# Altium footprint library 634-10ABP.PcbLib: 1 footprints
Each footprint in its own frame and in the unit in brackets; x right, y up, seen from the top. Pads: shape width x height; smd on the part's side, far side on the other; paste and mask are expansions set on the pad; w line width, h text height; cw(c..) or ccw(c..) is an arc to the next point about the centre after c.
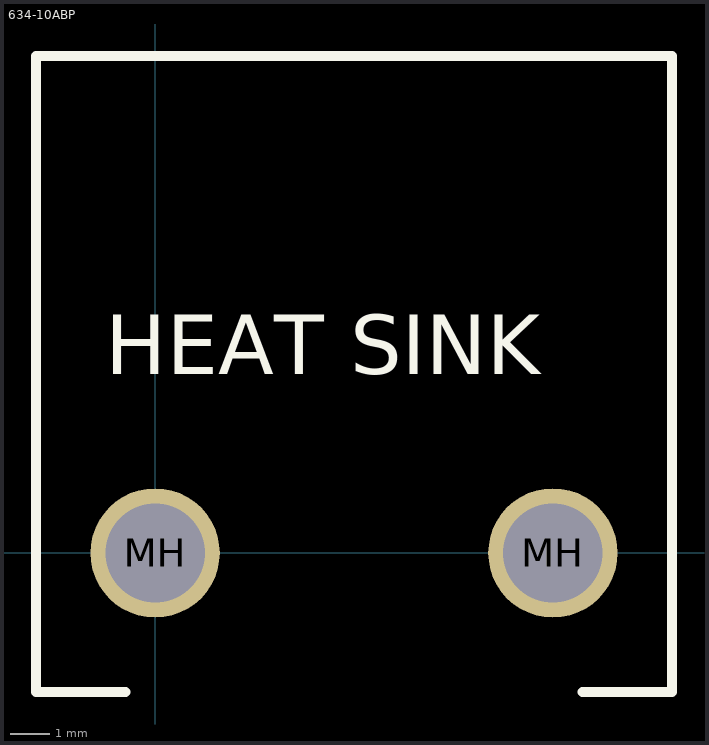
[diagram p0: the footprint, top view; thin cyan lines are the x and y axes]

## 634-10ABP [mil]
pads (2):
  round 130 hole 100: MH(0,0) MH(400,0)
Top Overlay:
  lines w10: -30,-140 -120,-140 -120,500 520,500 520,-140 430,-140
  text "HEAT SINK" at -50,180 h60
3D body: height 1000, standoff 0, extent -120,-140 520,500